# Altium footprint library SamacSys.PcbLib: 33 footprints (part 3 of 3)
Each footprint in its own frame and in the unit in brackets; x right, y up, seen from the top. Pads: shape width x height; smd on the part's side, far side on the other; paste and mask are expansions set on the pad; w line width, h text height; cw(c..) or ccw(c..) is an arc to the next point about the centre after c.
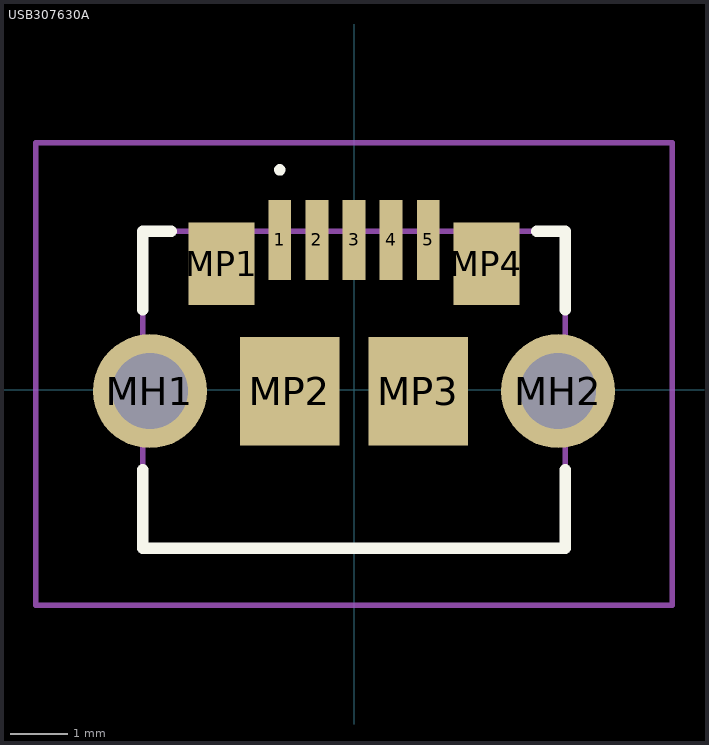
[diagram p2: the footprint, top view; thin cyan lines are the x and y axes]

## USB307630A [mm]
pads (11):
  rect 0.4x1.4 smd: 1(-1.3,2.625) 2(-0.65,2.625) 3(0,2.625) 4(0.65,2.625) 5(1.3,2.625)
  round 1.995 hole 1.33: MH1(-3.575,-0.025) MH2(3.575,-0.025)
  rect 1.15x1.45 smd: MP1(-2.32,2.205) MP4(2.32,2.205)
  rect 1.75x1.9 smd: MP2(-1.125,-0.025) MP3(1.125,-0.025)
Top Overlay:
  lines w0.1: -1.3,3.8 ccw(c-1.3,3.85) -1.3,3.9 ccw(c-1.3,3.85) -1.3,3.8
  lines w0.2: -3.7,-1.4 -3.7,-2.775 3.7,-2.775 3.7,-1.4 ; -3.7,1.4 -3.7,2.775 -3.2,2.775 ; 3.2,2.775 3.7,2.775 3.7,1.4
Mechanical 13:
  lines w0.1: -3.7,-2.775 3.7,-2.775 3.7,2.775 -3.7,2.775 -3.7,-2.775
Mechanical 15:
  lines w0.1: -5.573,-3.775 5.573,-3.775 5.573,4.325 -5.573,4.325 -5.573,-3.775
3D body "USB3076-30-A.stp": height 2.73, standoff -0.93, extent -3.7,-2.529 3.7,3.071